# Altium footprint library CONN3x16_CINCH.PcbLib: 1 footprints
Each footprint in its own frame and in the unit in brackets; x right, y up, seen from the top. Pads: shape width x height; smd on the part's side, far side on the other; paste and mask are expansions set on the pad; w line width, h text height; cw(c..) or ccw(c..) is an arc to the next point about the centre after c.
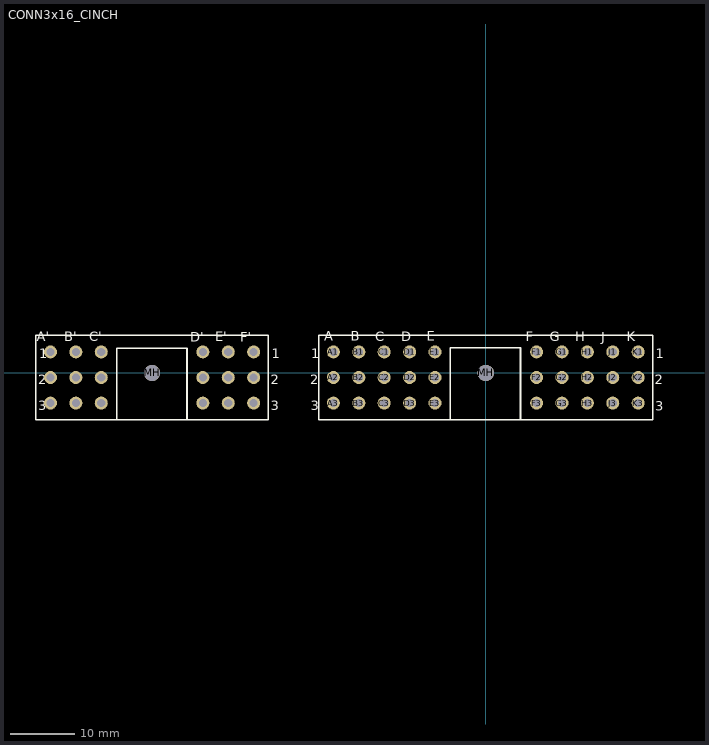
[diagram p0: the footprint, top view; thin cyan lines are the x and y axes]

## CONN3x16_CINCH [mil]
pads (50):
  round 80 hole 50: A1(-936,129.02) A2(-936,-27.99) A3(-936,-185) A'1(-2674.01,129.02) A'2(-2674.01,-27.99) A'3(-2674.01,-185) B1(-780,129.02) B2(-780,-27.99) B3(-780,-185) B'1(-2518.02,129.02) B'3(-2518.02,-185) C1(-624,129.02) C2(-624,-27.99) C3(-624,-185) C'1(-2362,129.02) C'2(-2362,-27.99) C'3(-2362,-185) D1(-468,129.02) D3(-468,-185) D'1(-1738,129.02) D'2(-1738,-27.99) D'3(-1738,-185) E1(-312,129.02) E2(-312,-27.99) E3(-312,-185) E'1(-1581.98,129.02) E'2(-1581.98,-27.99) E'3(-1581.98,-185) F1(312,129.02) F2(312,-27.99) F3(312,-185) F'1(-1425.99,129.02) F'2(-1425.99,-27.99) F'3(-1425.99,-185) G1(468,129.02) G2(468,-27.99) G3(468,-185) H1(624,129.02) H2(624,-27.99) H3(624,-185) J1(780,129.02) J2(780,-27.99) J3(780,-185) K1(936,129.02) K2(936,-27.99) K3(936,-185)
  round 80 hole 50 mask+4.02: B'2(-2518.02,-27.99)
  round 80 hole 50 mask+4: D2(-468,-27.99)
  round 100 hole 100: MH(-2050,0) MH(0,0)
TopOverlay:
  lines w7.99: -1336.01,-289.02 -1336.01,232.99
  lines w8: -1336.01,-289 -2764,-289 -2764,233 -1336.01,233 ; -1026,-289 1026,-289 1026,233 -1026,233 -1026,-289
  lines w10: -2267,-283 -2267,152 -2050,152 ; -2052,152 -1835,152 -1835,-283 ; -219,-280 -219,155 -2,155 ; -4,155 213,155 213,-280
  text "A'" at -2757,174 h100
  text "B'" at -2589,174 h100
  text "C'" at -2435,174 h100
  text "D'" at -1814,171 h100
  text "E'" at -1663,172 h100
  text "F'" at -1507,171 h100
  text "K" at 866,173 h100
  text "J" at 709,173 h100
  text "H" at 551,173 h100
  text "G" at 394,173 h100
  text "F" at 246,172 h100
  text "E" at -362,175 h100
  text "D" at -519,174 h100
  text "C" at -679,174 h100
  text "B" at -828,176 h100
  text "A" at -992,175 h100
  text "1" at -2743,69 h100
  text "2" at -2749,-90 h100
  text "3" at -2748,-252 h100
  text "3" at -1320,-252 h100
  text "2" at -1321,-90 h100
  text "1" at -1315,69 h100
  text "3" at -1076,-252 h100
  text "2" at -1077,-90 h100
  text "1" at -1071,69 h100
  text "3" at 1040,-253 h100
  text "2" at 1039,-91 h100
  text "1" at 1045,68 h100
BottomOverlay:
  text "A" at -862,174 h100
  text "B" at -716,175 h100
  text "C" at -550,174 h100
  text "D" at -405,176 h100
  text "E" at -244,174 h100
  text "F" at 380,170 h100
  text "G" at 546,170 h100
  text "H" at 662,217 h100
  text "J" at 850,169 h100
  text "K" at 1007,172 h100
  text "F'" at -1355,172 h100
  text "E'" at -1508,173 h100
  text "D" at -1668,172 h100
  text "C'" at -2227,174 h100
  text "B'" at -2394,174 h100
  text "A'" at -2539,173 h100
  text "3" at -2716,-251 h100
  text "1" at -2720,69 h100
  text "2" at -2715,-91 h100
  text "2" at -1287,-91 h100
  text "1" at -1292,69 h100
  text "3" at -1288,-251 h100
  text "2" at -1043,-91 h100
  text "1" at -1048,69 h100
  text "3" at -1044,-251 h100
  text "2" at 1073,-92 h100
  text "1" at 1068,68 h100
  text "3" at 1072,-252 h100